# Altium schematic symbol library SN74AVC4T245RGYR.SchLib: 1 symbol
Pins are listed as number, name and electrical type; pins without a type are passive.

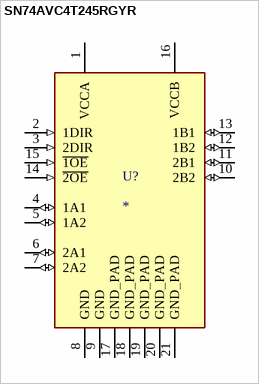
[diagram p0: symbol SN74AVC4T245RGYR]

## SN74AVC4T245RGYR
designator U?
4-Bit Dual-Supply Bus Transceiver with Configurable Voltage-Level Shifting and 3-State Outputs 16-VQFN -40 to 85; MP: SN74AVC4T245RGYR; Package: None; Value: *; Availability: Unavailable; Price: None
footprint QFN50P400X350X100-17N
pins: 1 VCCA (power), 2 1DIR (in), 3 2DIR (in), 4 1A1 (io), 5 1A2 (io), 6 2A1 (io), 7 2A2 (io), 8 GND (power), 9 GND (power), 10 2B2 (io), 11 2B1 (io), 12 1B2 (io), 13 1B1 (io), 14 ~{2OE} (in), 15 ~{1OE} (in), 16 VCCB (power), 17 GND_PAD (power), 18 GND_PAD (power), 19 GND_PAD (power), 20 GND_PAD (power), 21 GND_PAD (power)